# EAGLE library part DSP_BF592 (library DSP_PID)
Blackfin 200MHz Digital Signal Processor, 64-PIN LCSP
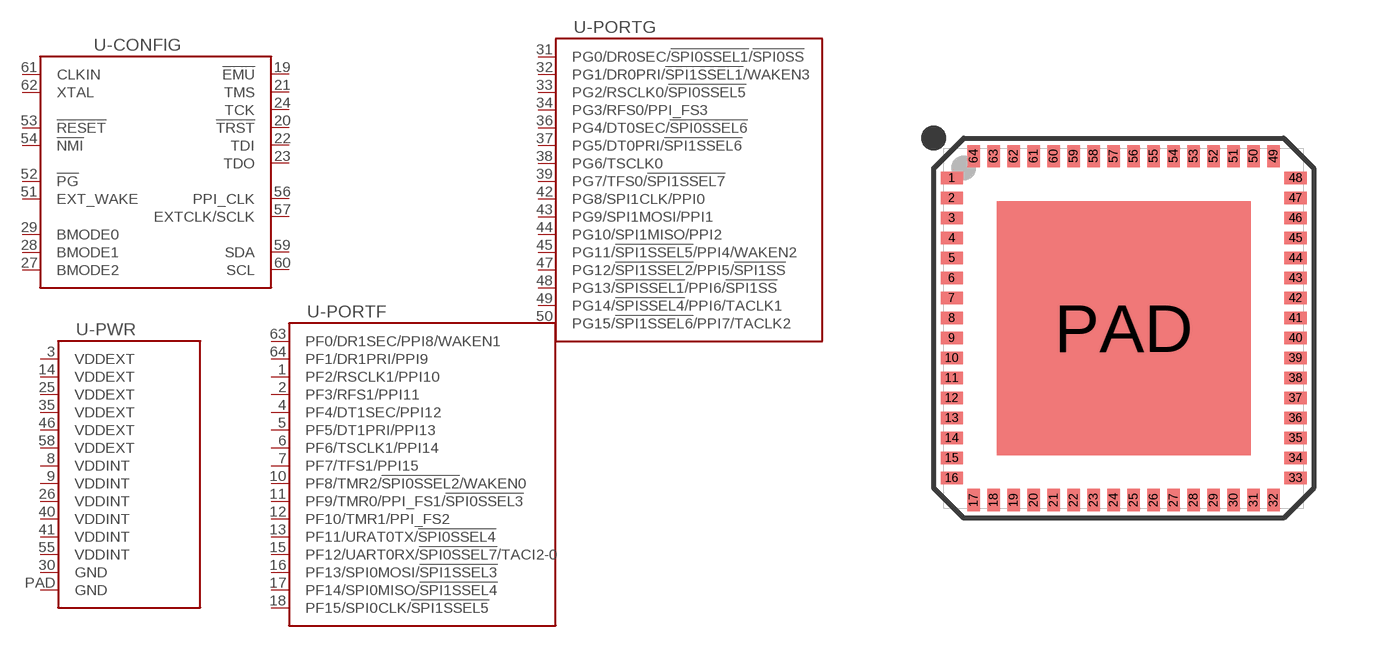
[diagram p0: symbol with the pads of LFCSP-64; footprint LFCSP-64]

Designator prefix U; gates -CONFIG=BF592-CONFIG -PWR=BF592-POWER -PORTF=BF592-F -PORTG=BF592-G

## DSP_BF592 (MFG: ANALOG DEVICES; MPN: ADSP-BF592KCPZ-2; PRICE: 6.25; SOLIDWORKS_CONFIG: LFCSP-64; SOLIDWORKS_FILE: LFCSP.SLDASM; VENDOR: DIGIKEY; VPN: ADSP-BF592KCPZ-2-ND)  [LFCSP-64]
1  -PORTF:PF2/RSCLK1/PPI10  pas
2  -PORTF:PF3/RFS1/PPI11  pas
3  -PWR:VDDEXT  pas
4  -PORTF:PF4/DT1SEC/PPI12  pas
5  -PORTF:PF5/DT1PRI/PPI13  pas
6  -PORTF:PF6/TSCLK1/PPI14  pas
7  -PORTF:PF7/TFS1/PPI15  pas
8  -PWR:VDDINT  pas
9  -PWR:VDDINT  pas
10  -PORTF:PF8/TMR2/!SPI0SSEL2!/WAKEN0  pas
11  -PORTF:PF9/TMR0/PPI_FS1/!SPI0SSEL3  pas
12  -PORTF:PF10/TMR1/PPI_FS2  pas
13  -PORTF:PF11/URAT0TX/!SPI0SSEL4  pas
14  -PWR:VDDEXT  pas
15  -PORTF:PF12/UART0RX/!SPI0SSEL7!/TACI2-0  pas
16  -PORTF:PF13/SPI0MOSI/!SPI1SSEL3  pas
17  -PORTF:PF14/SPI0MISO/!SPI1SSEL4  pas
18  -PORTF:PF15/SPI0CLK/!SPI1SSEL5  pas
19  -CONFIG:!EMU  pas
20  -CONFIG:!TRST  pas
21  -CONFIG:TMS  pas
22  -CONFIG:TDI  pas
23  -CONFIG:TDO  pas
24  -CONFIG:TCK  pas
25  -PWR:VDDEXT  pas
26  -PWR:VDDINT  pas
27  -CONFIG:BMODE2  pas
28  -CONFIG:BMODE1  pas
29  -CONFIG:BMODE0  pas
30  -PWR:GND  pas
31  -PORTG:PG0/DR0SEC/!SPI0SSEL1!/!SPI0SS  pas
32  -PORTG:PG1/DR0PRI/!SPI1SSEL1!/WAKEN3  pas
33  -PORTG:PG2/RSCLK0/!SPI0SSEL5  pas
34  -PORTG:PG3/RFS0/PPI_FS3  pas
35  -PWR:VDDEXT  pas
36  -PORTG:PG4/DT0SEC/!SPI0SSEL6  pas
37  -PORTG:PG5/DT0PRI/!SPI1SSEL6  pas
38  -PORTG:PG6/TSCLK0  pas
39  -PORTG:PG7/TFS0/!SPI1SSEL7  pas
40  -PWR:VDDINT  pas
41  -PWR:VDDINT  pas
42  -PORTG:PG8/SPI1CLK/PPI0  pas
43  -PORTG:PG9/SPI1MOSI/PPI1  pas
44  -PORTG:PG10/SPI1MISO/PPI2  pas
45  -PORTG:PG11/!SPI1SSEL5!/PPI4/WAKEN2  pas
46  -PWR:VDDEXT  pas
47  -PORTG:PG12/!SPI1SSEL2!/PPI5/!SPI1SS  pas
48  -PORTG:PG13/!SPISSEL1!/PPI6/!SPI1SS  pas
49  -PORTG:PG14/!SPISSEL4!/PPI6/TACLK1  pas
50  -PORTG:PG15/!SPI1SSEL6!/PPI7/TACLK2  pas
51  -CONFIG:EXT_WAKE  pas
52  -CONFIG:!PG  pas
53  -CONFIG:!RESET  pas
54  -CONFIG:!NMI  pas
55  -PWR:VDDINT  pas
56  -CONFIG:PPI_CLK  pas
57  -CONFIG:EXTCLK/SCLK  pas
58  -PWR:VDDEXT  pas
59  -CONFIG:SDA  pas
60  -CONFIG:SCL  pas
61  -CONFIG:CLKIN  pas
62  -CONFIG:XTAL  pas
63  -PORTF:PF0/DR1SEC/PPI8/WAKEN1  pas
64  -PORTF:PF1/DR1PRI/PPI9  pas
PAD  -PWR:GND  pas

## Footprint LFCSP-64 (pad centres in mm)
smd 0.55 x 0.32: 1 -4.3,3.75; 2 -4.3,3.25; 3 -4.3,2.75; 4 -4.3,2.25; 5 -4.3,1.75; 6 -4.3,1.25; 7 -4.3,0.75; 8 -4.3,0.25; 9 -4.3,-0.25; 10 -4.3,-0.75; 11 -4.3,-1.25; 12 -4.3,-1.75; 13 -4.3,-2.25; 14 -4.3,-2.75; 15 -4.3,-3.25; 16 -4.3,-3.75; 33 4.3,-3.75; 34 4.3,-3.25; 35 4.3,-2.75; 36 4.3,-2.25; 37 4.3,-1.75; 38 4.3,-1.25; 39 4.3,-0.75; 40 4.3,-0.25; 41 4.3,0.25; 42 4.3,0.75; 43 4.3,1.25; 44 4.3,1.75; 45 4.3,2.25; 46 4.3,2.75; 47 4.3,3.25; 48 4.3,3.75
smd 0.32 x 0.55: 17 -3.75,-4.3; 18 -3.25,-4.3; 19 -2.75,-4.3; 20 -2.25,-4.3; 21 -1.75,-4.3; 22 -1.25,-4.3; 23 -0.75,-4.3; 24 -0.25,-4.3; 25 0.25,-4.3; 26 0.75,-4.3; 27 1.25,-4.3; 28 1.75,-4.3; 29 2.25,-4.3; 30 2.75,-4.3; 31 3.25,-4.3; 32 3.75,-4.3; 49 3.75,4.3; 50 3.25,4.3; 51 2.75,4.3; 52 2.25,4.3; 53 1.75,4.3; 54 1.25,4.3; 55 0.75,4.3; 56 0.25,4.3; 57 -0.25,4.3; 58 -0.75,4.3; 59 -1.25,4.3; 60 -1.75,4.3; 61 -2.25,4.3; 62 -2.75,4.3; 63 -3.25,4.3; 64 -3.75,4.3
smd 6.35 x 6.35: PAD 0,0